# Altium schematic symbol library BM71BLES1FC2.SchLib: 1 symbol
Pins are listed as number, name and electrical type; pins without a type are passive.

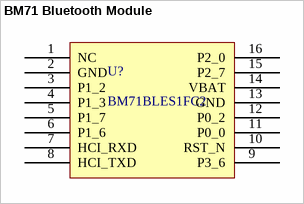
[diagram p0: symbol BM71 Bluetooth Module]

## BM71 Bluetooth Module
designator U?, comment BM71BLES1FC2
BM71 Bluetooth Module
footprint BM71BLES1FC2 (Bluetooth Module)
pins: 1 NC, 2 GND, 3 P1_2, 4 P1_3, 5 P1_7, 6 P1_6, 7 HCI_RXD, 8 HCI_TXD, 9 P3_6, 10 RST_N, 11 P0_0, 12 P0_2, 13 GND, 14 VBAT, 15 P2_7, 16 P2_0